# Altium footprint library OSCCC250X200X55L75X90N.PcbLib: 1 footprints
Each footprint in its own frame and in the unit in brackets; x right, y up, seen from the top. Pads: shape width x height; smd on the part's side, far side on the other; paste and mask are expansions set on the pad; w line width, h text height; cw(c..) or ccw(c..) is an arc to the next point about the centre after c.
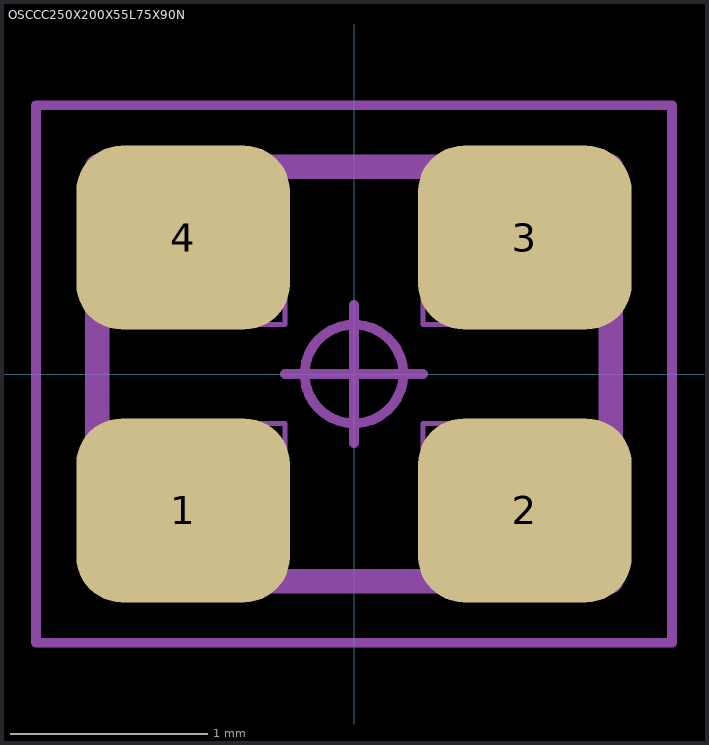
[diagram p0: the footprint, top view; thin cyan lines are the x and y axes]

## OSCCC250X200X55L75X90N [mm] "Oscillator, Corner Concave; 2.50 mm L X 2.00 mm W X 0.55 mm H body"
height 0.55
pads (4):
  rrect49% 1.08x0.93 smd: 1(-0.865,-0.69) 2(0.865,-0.69) 3(0.865,0.69) 4(-0.865,0.69)
Mechanical 3:
  lines w0.12: -1.3,-0.45 -1.3,1.05 1.3,1.05 1.3,-1.05 -0.7,-1.05 -1.3,-0.45
Mechanical 5:
  lines w0.025: -1.25,-1 1.25,-1 ; -1.25,-1 -1.25,1 ; -1.25,-1 -1.25,-0.25 -0.35,-0.25 -0.35,-1 -1.25,-1 ; -1.25,1 1.25,1 ; -1.25,1 -0.35,1 -0.35,0.25 -1.25,0.25 -1.25,1 ; 1.25,-1 1.25,1 ; 1.25,-1 0.35,-1 0.35,-0.25 1.25,-0.25 1.25,-1 ; 1.25,1 1.25,0.25 0.35,0.25 0.35,1 1.25,1
Mechanical 7:
  circle w0.05: c0,0 r0.25
  lines w0.05: -0.35,0 0.35,0 ; 0,-0.35 0,0.35 ; -1.61,-1.36 1.61,-1.36 1.61,1.36 -1.61,1.36 -1.61,-1.36
Mechanical 9:
  text "'.Designator'" at -8.68,-0.404 h1
3D body "OSCCC250X200X55L75X90.STEP": height 0.55, standoff 0, extent -1.25,-1 1.25,1
3D body: height 1.04, standoff 0, extent -1.61,-1.36 1.61,1.36